# Altium schematic symbol library SCH - MCU - SI LABS - SI LABS EFM32HG108F32 24-PIN QFN 5X5.SchLib: 1 symbol
Pins are listed as number, name and electrical type; pins without a type are passive.

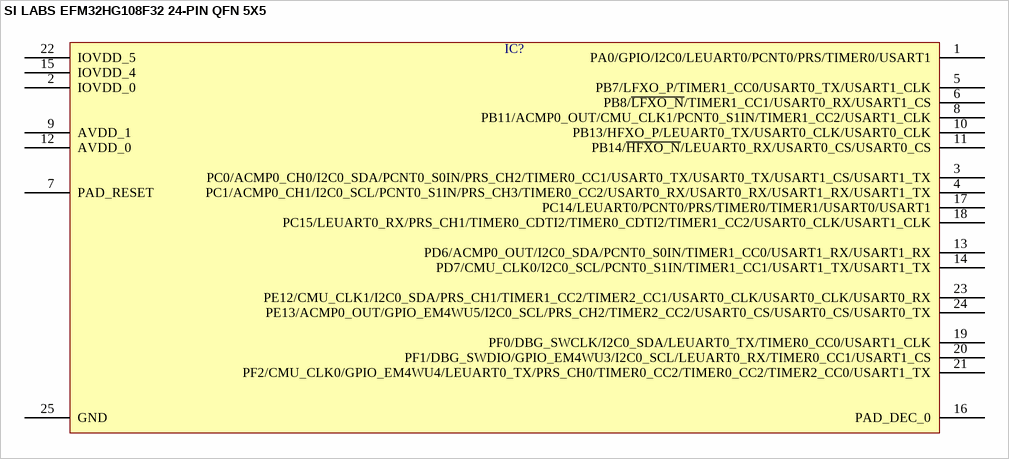
[diagram p0: symbol SI LABS EFM32HG108F32 24-PIN QFN 5X5]

## SI LABS EFM32HG108F32 24-PIN QFN 5X5
designator IC?  (value not drawn)
pins: 1 PA0/GPIO/I2C0/LEUART0/PCNT0/PRS/TIMER0/USART1, 2 IOVDD_0, 3 PC0/ACMP0_CH0/I2C0_SDA/PCNT0_S0IN/PRS_CH2/TIMER0_CC1/USART0_TX/USART0_TX/USART1_CS/USART1_TX, 4 PC1/ACMP0_CH1/I2C0_SCL/PCNT0_S1IN/PRS_CH3/TIMER0_CC2/USART0_RX/USART0_RX/USART1_RX/USART1_TX, 5 PB7/LFXO_P/TIMER1_CC0/USART0_TX/USART1_CLK, 6 PB8/~{LFXO_N}/TIMER1_CC1/USART0_RX/USART1_CS, 7 PAD_RESET, 8 PB11/ACMP0_OUT/CMU_CLK1/PCNT0_S1IN/TIMER1_CC2/USART1_CLK, 9 AVDD_1, 10 PB13/HFXO_P/LEUART0_TX/USART0_CLK/USART0_CLK, 11 PB14/~{HFXO_N}/LEUART0_RX/USART0_CS/USART0_CS, 12 AVDD_0, 13 PD6/ACMP0_OUT/I2C0_SDA/PCNT0_S0IN/TIMER1_CC0/USART1_RX/USART1_RX, 14 PD7/CMU_CLK0/I2C0_SCL/PCNT0_S1IN/TIMER1_CC1/USART1_TX/USART1_TX, 15 IOVDD_4, 16 PAD_DEC_0, 17 PC14/LEUART0/PCNT0/PRS/TIMER0/TIMER1/USART0/USART1, 18 PC15/LEUART0_RX/PRS_CH1/TIMER0_CDTI2/TIMER0_CDTI2/TIMER1_CC2/USART0_CLK/USART1_CLK, 19 PF0/DBG_SWCLK/I2C0_SDA/LEUART0_TX/TIMER0_CC0/USART1_CLK, 20 PF1/DBG_SWDIO/GPIO_EM4WU3/I2C0_SCL/LEUART0_RX/TIMER0_CC1/USART1_CS, 21 PF2/CMU_CLK0/GPIO_EM4WU4/LEUART0_TX/PRS_CH0/TIMER0_CC2/TIMER0_CC2/TIMER2_CC0/USART1_TX, 22 IOVDD_5, 23 PE12/CMU_CLK1/I2C0_SDA/PRS_CH1/TIMER1_CC2/TIMER2_CC1/USART0_CLK/USART0_CLK/USART0_RX, 24 PE13/ACMP0_OUT/GPIO_EM4WU5/I2C0_SCL/PRS_CH2/TIMER2_CC2/USART0_CS/USART0_CS/USART0_TX, 25 GND